# Altium integrated library 61300311121.IntLib: 1 symbol
Pins are listed as number, name and electrical type; pins without a type are passive.

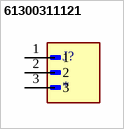
[diagram p0: symbol 61300311121]

## 61300311121
designator J?
MP: 61300311121; Package: None; Price: None; Value: *; Availability: Unavailable
footprint WURTH_61300311121
pins: 1, 2, 3